# EAGLE library part BQ24032A (library ohranyator)
TI BQ24032A http://www.ti.com/lit/ds/slus618h/slus618h.pdf
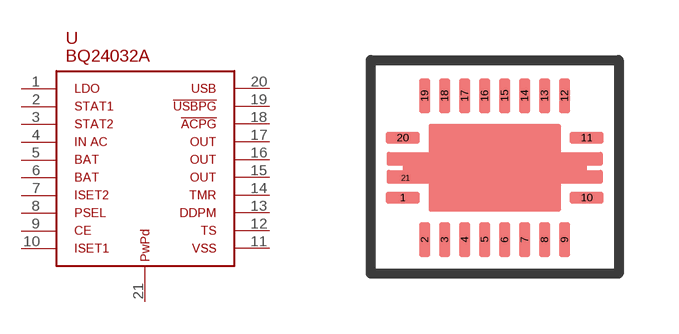
[diagram p7: symbol with the pads of BQ24070; footprint BQ24070]

Designator prefix -

## BQ24032A  [BQ24070]
1  1
2  2
3  3
4  4
5  5
6  6
7  7
8  8
9  9
10  10
11  11
12  12
13  13
14  14
15  15
16  16
17  17
18  18
19  19
20  20
21  PWPD

## Footprint BQ24070 (pad centres in mm)
smd 0.85 x 0.28: 1 0.35,1.4; 10 4.95,1.4; 11 4.95,2.9; 20 0.35,2.9
smd 0.28 x 0.85: 2 0.9,0.35; 3 1.4,0.35; 4 1.9,0.35; 5 2.4,0.35; 6 2.9,0.35; 7 3.4,0.35; 8 3.9,0.35; 9 4.4,0.35; 12 4.4,3.95; 13 3.9,3.95; 14 3.4,3.95; 15 2.9,3.95; 16 2.4,3.95; 17 1.9,3.95; 18 1.4,3.95; 19 0.9,3.95
smd 0.305 x 0.102: 21 0.419,1.897